# Altium footprint library Tese_FootprintLib.PcbLib: 41 footprints (part 2 of 3)
Each footprint in its own frame and in the unit in brackets; x right, y up, seen from the top. Pads: shape width x height; smd on the part's side, far side on the other; paste and mask are expansions set on the pad; w line width, h text height; cw(c..) or ccw(c..) is an arc to the next point about the centre after c.
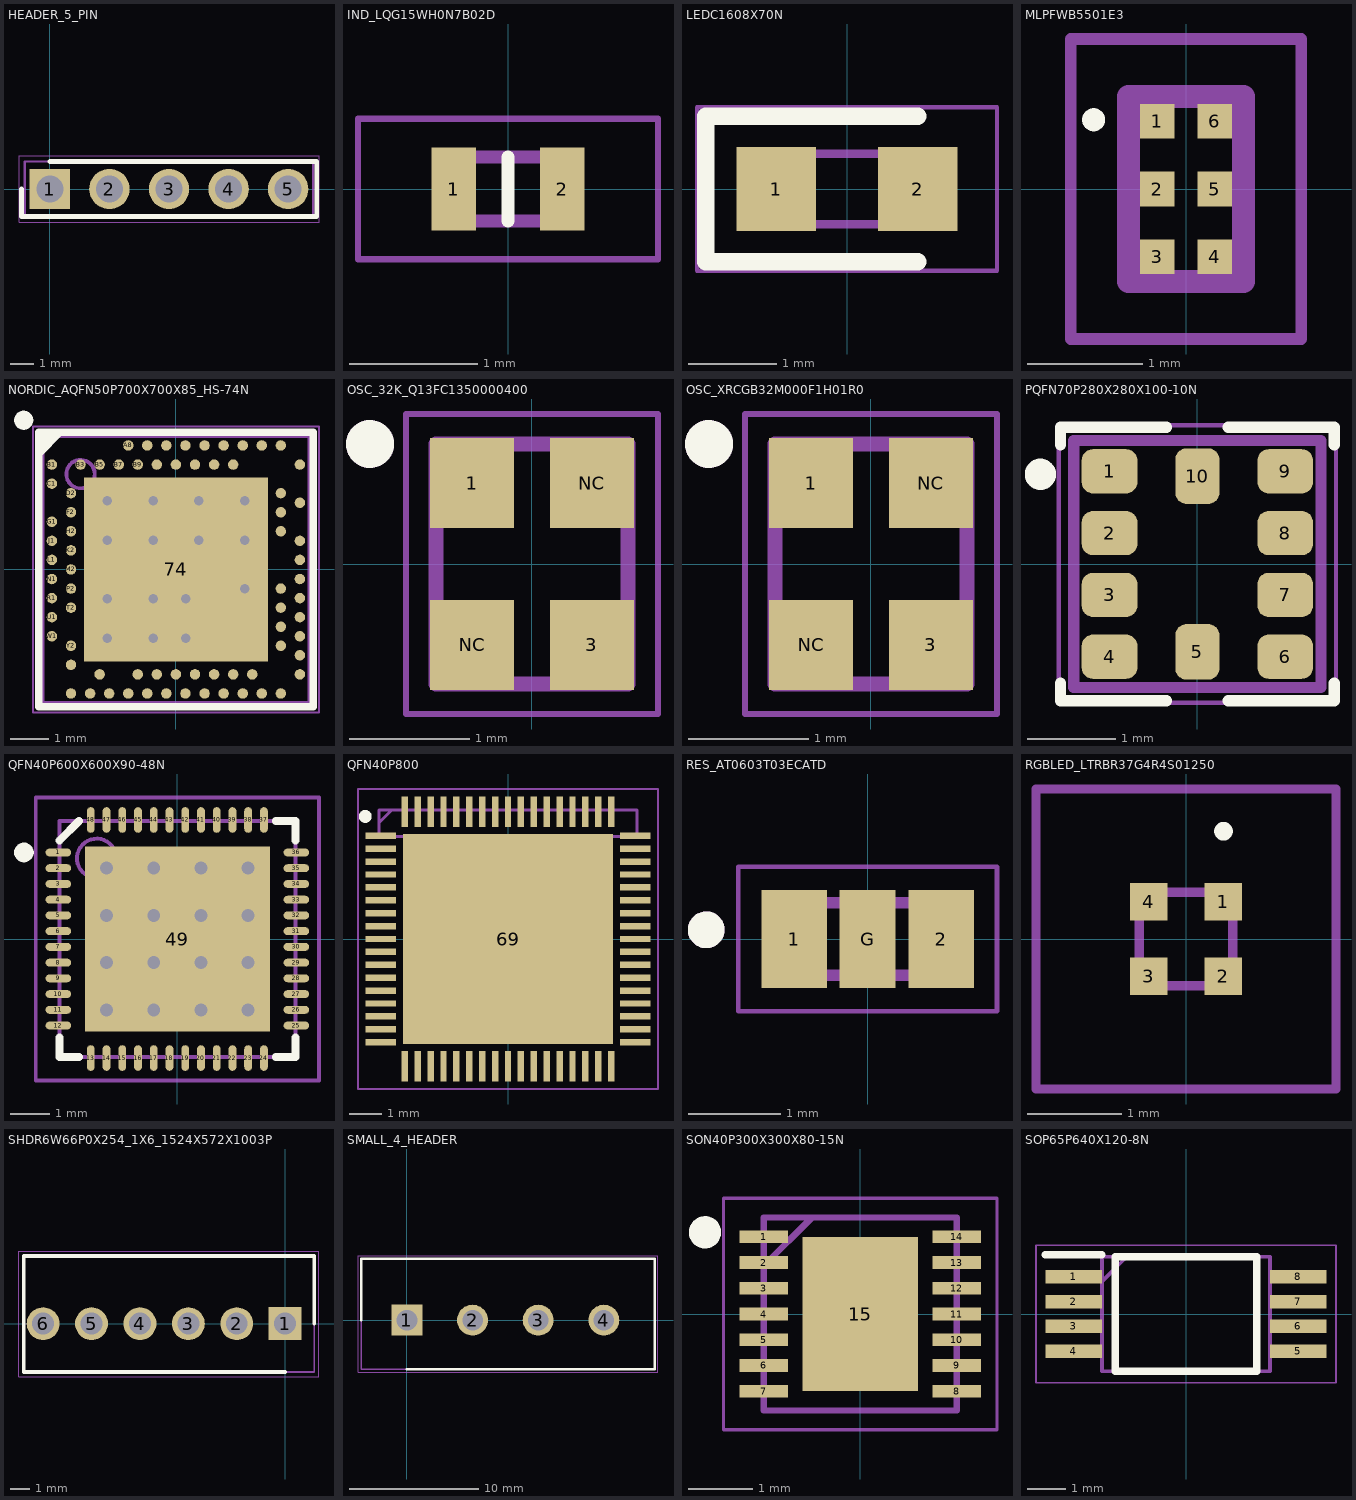
[diagram p1: the footprints below, top view; thin cyan lines are the x and y axes]

## HEADER_5_PIN [mm]
pads (5):
  rect 1.725x1.725 / inner round 1.725 / far side rect 1.725x1.725 hole 1.15: 1(0,0)
  round 1.725 hole 1.15: 2(2.54,0) 3(5.08,0) 4(7.62,0) 5(10.16,0)
Top Overlay:
  lines w0.2: -1.212,0 -1.212,-1.17 11.373,-1.17 11.373,1.17 0,1.17
Mechanical 15:
  lines w0.1: -1.065,-1.17 -1.065,1.17 11.225,1.17 11.225,-1.17 -1.065,-1.17
Mechanical 20:
  lines w0.05: -1.315,-1.42 -1.315,1.42 11.475,1.42 11.475,-1.42 -1.315,-1.42

## IND_LQG15WH0N7B02D [mm] "INDUCTOR 0402"
pads (2):
  rect 0.35x0.65 smd: 1(-0.425,0) 2(0.425,0)
Top Overlay:
  lines w0.1: 0,-0.25 0,0.25
Mechanical 15:
  lines w0.1: -0.5,-0.25 0.5,-0.25 0.5,0.25 -0.5,0.25 -0.5,-0.25
Mechanical 20:
  lines w0.05: -1.175,-0.55 1.175,-0.55 1.175,0.55 -1.175,0.55 -1.175,-0.55
3D body "LQG15HN9N1J02D.stp": height 0.55, standoff 0, extent -0.5,-0.25 0.5,0.25

## LEDC1608X70N [mm]
pads (2):
  rect 0.9x0.95 smd: 1(-0.8,0) 2(0.8,0)
Top Overlay:
  lines w0.2: 0.8,-0.825 -1.6,-0.825 -1.6,0.825 0.8,0.825
Mechanical 15:
  lines w0.1: -0.8,0.133 -0.533,0.4 ; -0.8,-0.4 0.8,-0.4 0.8,0.4 -0.8,0.4 -0.8,-0.4
Mechanical 20:
  lines w0.05: -1.7,-0.925 1.7,-0.925 1.7,0.925 -1.7,0.925 -1.7,-0.925

## MLPFWB5501E3 [mm]
pads (6):
  rect 0.3x0.3 smd mask+0.05: 1(-0.25,0.587) 2(-0.25,0) 3(-0.25,-0.587) 4(0.25,-0.587) 5(0.25,0) 6(0.25,0.587)
Top Overlay:
  lines w0.1: -0.8,0.55 ccw(c-0.8,0.6) -0.8,0.65 ccw(c-0.8,0.6) -0.8,0.55
Mechanical 15:
  lines w0.2: -0.5,-0.8 -0.5,0.8 0.5,0.8 0.5,-0.8 -0.5,-0.8
Mechanical 20:
  lines w0.1: -1,-1.3 -1,1.3 1,1.3 1,-1.3 -1,-1.3
3D body "MLPF-WB55-01E3.stp": height 0.44, standoff -0.01, extent -0.5,-0.8 0.5,0.8

## NORDIC_AQFN50P700X700X85_HS-74N [mm]
pads (74):
  rect 4.83x4.83 smd mask+0.05: 74(0,0)
  round 0.275 smd paste+0.012 mask+0.05: A8(-1.25,3.25) A10(-0.75,3.25) A12(-0.25,3.25) A14(0.25,3.25) A16(0.75,3.25) A18(1.25,3.25) A20(1.75,3.25) A22(2.25,3.25) A23(2.75,3.25) AA24(3.25,-2.25) AB2(-2.75,-2.5) AC5(-2,-2.75) AC9(-1,-2.75) AC11(-0.5,-2.75) AC13(0,-2.75) AC15(0.5,-2.75) AC17(1,-2.75) AC19(1.5,-2.75) AC21(2,-2.75) AC24(3.25,-2.75) AD2(-2.75,-3.25) AD4(-2.25,-3.25) AD6(-1.75,-3.25) AD8(-1.25,-3.25) AD10(-0.75,-3.25) AD12(-0.25,-3.25) AD14(0.25,-3.25) AD16(0.75,-3.25) AD18(1.25,-3.25) AD20(1.75,-3.25) AD22(2.25,-3.25) AD23(2.75,-3.25) B1(-3.25,2.75) B3(-2.5,2.75) B5(-2,2.75) B7(-1.5,2.75) B9(-1,2.75) B11(-0.5,2.75) B13(0,2.75) B15(0.5,2.75) B17(1,2.75) B19(1.5,2.75) B24(3.25,2.75) C1(-3.25,2.25) D2(-2.75,2) D23(2.75,2) E24(3.25,1.75) F2(-2.75,1.5) F23(2.75,1.5) G1(-3.25,1.25) H2(-2.75,1) H23(2.75,1) J1(-3.25,0.75) J24(3.25,0.75) K2(-2.75,0.5) L1(-3.25,0.25) L24(3.25,0.25) M2(-2.75,0) N1(-3.25,-0.25) N24(3.25,-0.25) P2(-2.75,-0.5) P23(2.75,-0.5) R1(-3.25,-0.75) R24(3.25,-0.75) T2(-2.75,-1) T23(2.75,-1) U1(-3.25,-1.25) U24(3.25,-1.25) V23(2.75,-1.5) W1(-3.25,-1.75) W24(3.25,-1.75) Y2(-2.75,-2) Y23(2.75,-2)
via 1.8,-0.508 diameter 0.5 hole 0.25
via 0.254,-1.8 diameter 0.5 hole 0.25
via -0.6,-1.8 diameter 0.5 hole 0.25
via -1.8,-1.8 diameter 0.5 hole 0.25
via 0.254,-0.762 diameter 0.5 hole 0.25
via -0.6,-0.762 diameter 0.5 hole 0.25
via -1.8,-0.762 diameter 0.5 hole 0.25
via 1.8,0.762 diameter 0.5 hole 0.25
via 0.6,0.762 diameter 0.5 hole 0.25
via -0.6,0.762 diameter 0.5 hole 0.25
via -1.8,0.762 diameter 0.5 hole 0.25
via 1.8,1.8 diameter 0.5 hole 0.25
via 0.6,1.8 diameter 0.5 hole 0.25
via -0.6,1.8 diameter 0.5 hole 0.25
via -1.8,1.8 diameter 0.5 hole 0.25
Top Overlay:
  circle w0.25: c-3.988,3.912 r0.125
  region: -3,3.5 -3.5,3 -3.5,3.5
  lines w0.2: -3.6,-3.6 3.6,-3.6 3.6,3.6 -3.6,3.6 -3.6,-3.6
Mechanical 7:
  circle w0.1: c-2.5,2.5 r0.373
  lines w0.1: -3.5,-3.5 -3.5,3.5 3.5,3.5 3.5,-3.5 -3.5,-3.5
  text ".Designator" at 0.305,0.076 h0.3
Mechanical 15:
  lines w0.05: -3.75,-3.75 3.75,-3.75 3.75,3.75 -3.75,3.75 -3.75,-3.75
  lines w0.1: -0.5,0 0.5,0 ; 0,-0.5 0,0.5
3D body "LGA88C25P25X25_700X700X85.step": height 0.85, standoff 0, extent -3.55,-3.55 3.55,3.55

## OSC_32K_Q13FC1350000400 [mm] "32.768kHz 12.5pF ±20ppm SMD3215-2P Crystals ROHS"
pads (4):
  rect 0.7x0.75 smd: 1(-0.5,0.675) 3(0.5,-0.675) NC(-0.5,-0.675) NC(0.5,0.675)
Top Overlay:
  circle w0.2: c-1.35,1 r0.1
Mechanical 13:
  circle w0.2: c-1.35,1 r0.1
  lines w0.127: -0.8,-1 -0.8,1 0.8,1 0.8,-1 -0.8,-1
Mechanical 15:
  lines w0.05: -1.05,-1.25 -1.05,1.25 1.05,1.25 1.05,-1.25 -1.05,-1.25
3D body "step_temp.STEP": height 0.7, standoff 0, extent -0.8,-1 0.8,1

## OSC_XRCGB32M000F1H01R0 [mm] "CRYSTAL 32MHZ"
pads (4):
  rect 0.7x0.75 smd: 1(-0.5,0.675) 3(0.5,-0.675) NC(-0.5,-0.675) NC(0.5,0.675)
Top Overlay:
  circle w0.2: c-1.35,1 r0.1
Mechanical 13:
  circle w0.2: c-1.35,1 r0.1
  lines w0.127: -0.8,-1 -0.8,1 0.8,1 0.8,-1 -0.8,-1
Mechanical 15:
  lines w0.05: -1.05,-1.25 -1.05,1.25 1.05,1.25 1.05,-1.25 -1.05,-1.25
3D body "step_temp.STEP": height 0.7, standoff 0, extent -0.8,-1 0.8,1

## PQFN70P280X280X100-10N [mm] "BH1790GLC-E2 PPG"
pads (10):
  rrect50% 0.63x0.5 smd: 1(-0.995,1.05) 2(-0.995,0.35) 3(-0.995,-0.35) 4(-0.995,-1.05) 6(0.995,-1.05) 7(0.995,-0.35) 8(0.995,0.35) 9(0.995,1.05)
  rrect50% 0.5x0.63 smd: 5(0,-0.995) 10(0,0.995)
Top Overlay:
  circle w0.254: c-1.778,1.016 r0.05
  lines w0.127: -1.55,-1.35 -1.55,-1.55 -0.35,-1.55 ; -1.55,1.35 -1.55,1.55 -0.35,1.55 ; 0.35,-1.55 1.55,-1.55 1.55,-1.35 ; 0.35,1.55 1.55,1.55 1.55,1.35
Mechanical 13:
  lines w0.127: -1.4,-1.4 -1.4,1.4 1.4,1.4 1.4,-1.4 -1.4,-1.4
Mechanical 15:
  lines w0.05: -1.57,-1.57 -1.57,1.57 1.57,1.57 1.57,-1.57 -1.57,-1.57
3D body "BH1790GLC-E2.STEP": height 1.01, standoff 0, extent -1.5,-1.627 1.5,1.373

## QFN40P600X600X90-48N [mm] "NRF52832"
pads (49):
  oval 0.65x0.2 smd: 1(-3.025,2.2) 2(-3.025,1.8) 3(-3.025,1.4) 4(-3.025,1) 5(-3.025,0.6) 6(-3.025,0.2) 7(-3.025,-0.2) 8(-3.025,-0.6) 9(-3.025,-1) 10(-3.025,-1.4) 11(-3.025,-1.8) 12(-3.025,-2.2) 25(3.025,-2.2) 26(3.025,-1.8) 27(3.025,-1.4) 28(3.025,-1) 29(3.025,-0.6) 30(3.025,-0.2) 31(3.025,0.2) 32(3.025,0.6) 33(3.025,1) 34(3.025,1.4) 35(3.025,1.8) 36(3.025,2.2)
  oval 0.2x0.65 smd: 13(-2.2,-3.025) 14(-1.8,-3.025) 15(-1.4,-3.025) 16(-1,-3.025) 17(-0.6,-3.025) 18(-0.2,-3.025) 19(0.2,-3.025) 20(0.6,-3.025) 21(1,-3.025) 22(1.4,-3.025) 23(1.8,-3.025) 24(2.2,-3.025) 37(2.2,3.025) 38(1.8,3.025) 39(1.4,3.025) 40(1,3.025) 41(0.6,3.025) 42(0.2,3.025) 43(-0.2,3.025) 44(-0.6,3.025) 45(-1,3.025) 46(-1.4,3.025) 47(-1.8,3.025) 48(-2.2,3.025)
  rect 4.7x4.7 smd: 49(0,0)
via -1.8,1.8 diameter 0.66 hole 0.33
via -0.6,1.8 diameter 0.66 hole 0.33
via 0.6,1.8 diameter 0.66 hole 0.33
via 1.8,1.8 diameter 0.66 hole 0.33
via -1.8,0.6 diameter 0.66 hole 0.33
via -0.6,0.6 diameter 0.66 hole 0.33
via 0.6,0.6 diameter 0.66 hole 0.33
via 1.8,0.6 diameter 0.66 hole 0.33
via -1.8,-0.6 diameter 0.66 hole 0.33
via -0.6,-0.6 diameter 0.66 hole 0.33
via 0.6,-0.6 diameter 0.66 hole 0.33
via 1.8,-0.6 diameter 0.66 hole 0.33
via -1.8,-1.8 diameter 0.66 hole 0.33
via -0.6,-1.8 diameter 0.66 hole 0.33
via 0.6,-1.8 diameter 0.66 hole 0.33
via 1.8,-1.8 diameter 0.66 hole 0.33
Top Overlay:
  circle w0.25: c-3.9,2.2 r0.125
  lines w0.2: -3,-2.5 -3,-3 -2.5,-3 ; -3,2.5 -2.5,3 ; 2.5,-3 3,-3 3,-2.5 ; 2.5,3 3,3 3,2.5
Mechanical 13:
  circle w0.1: c-2.05,2.05 r0.5
  lines w0.1: -3,-3 -3,3 3,3 3,-3 -3,-3
Mechanical 15:
  lines w0.1: -0.5,0 0.5,0 ; 0,-0.5 0,0.5 ; -3.6,-3.6 -3.6,3.6 3.6,3.6 3.6,-3.6 -3.6,-3.6
3D body "User Library-QFN48.step": height 0.86, standoff -0.01, extent -3.02,-3.02 3.02,3.02

## QFN40P800 [mm] "STM32WB55RGV6"
pads (69):
  rect 0.95x0.2 smd paste+0.001 mask+0.05: 1(-3.95,3.2) 2(-3.95,2.8) 3(-3.95,2.4) 4(-3.95,2) 5(-3.95,1.6) 6(-3.95,1.2) 7(-3.95,0.8) 8(-3.95,0.4) 9(-3.95,0) 10(-3.95,-0.4) 11(-3.95,-0.8) 12(-3.95,-1.2) 13(-3.95,-1.6) 14(-3.95,-2) 15(-3.95,-2.4) 16(-3.95,-2.8) 17(-3.95,-3.2) 35(3.95,-3.2) 36(3.95,-2.8) 37(3.95,-2.4) 38(3.95,-2) 39(3.95,-1.6) 40(3.95,-1.2) 41(3.95,-0.8) 42(3.95,-0.4) 43(3.95,0) 44(3.95,0.4) 45(3.95,0.8) 46(3.95,1.2) 47(3.95,1.6) 48(3.95,2) 49(3.95,2.4) 50(3.95,2.8) 51(3.95,3.2)
  rect 0.2x0.95 smd paste+0.001 mask+0.05: 18(-3.2,-3.95) 19(-2.8,-3.95) 20(-2.4,-3.95) 21(-2,-3.95) 22(-1.6,-3.95) 23(-1.2,-3.95) 24(-0.8,-3.95) 25(-0.4,-3.95) 26(0,-3.95) 27(0.4,-3.95) 28(0.8,-3.95) 29(1.2,-3.95) 30(1.6,-3.95) 31(2,-3.95) 32(2.4,-3.95) 33(2.8,-3.95) 34(3.2,-3.95) 52(3.2,3.95) 53(2.8,3.95) 54(2.4,3.95) 55(2,3.95) 56(1.6,3.95) 57(1.2,3.95) 58(0.8,3.95) 59(0.4,3.95) 60(0,3.95) 61(-0.4,3.95) 62(-0.8,3.95) 63(-1.2,3.95) 64(-1.6,3.95) 65(-2,3.95) 66(-2.4,3.95) 67(-2.8,3.95) 68(-3.2,3.95)
  rect 6.5x6.5 smd: 69(0,0)
Top Overlay:
  circle w0.2: c-4.425,3.8 r0.1
Mechanical 15:
  lines w0.1: -4,3.6 -3.6,4 ; -4,3.175 4,3.175 4,4 -4,4 -4,3.175
Mechanical 20:
  lines w0.05: -4.65,-4.65 4.65,-4.65 4.65,4.65 -4.65,4.65 -4.65,-4.65
3D body "STM32WB55RGV6.stp": height 1, standoff 0, extent -4.05,-4.05 4.05,4.05

## RES_AT0603T03ECATD [mil] "19-217/GHC-YR1S2/3T LED SMD Top View Uni-Color Brilliant Green 518nm 0603 Pkg ø7T/R 3k\""
pads (3):
  rect 28x42 smd mask+1.97: 1(-31.5,0) 2(31.5,0)
  rect 24x42 smd paste-78.74 mask+1.97: G(0,0)
Top Overlay:
  circle w7.87: c-69.12,3.94 r3.94
Top Paste:
  region: 7.5,-13.5 -7.5,-13.5 -7.5,13.5 7.5,13.5
Mechanical 13:
  circle w7.87: c-69.12,3.94 r3.94
  lines w5: -31.5,-15.5 31.5,-15.5 31.5,15.5 -31.5,15.5 -31.5,-15.5
Mechanical 15:
  lines w1.97: -55.34,-30.84 -55.34,30.84 55.34,30.84 55.34,-30.84 -55.34,-30.84

## RGBLED_LTRBR37G4R4S01250 [mm]
pads (4):
  rect 0.4x0.4 smd: 1(0.4,0.4) 2(0.4,-0.4) 3(-0.4,-0.4) 4(-0.4,0.4)
Top Overlay:
  lines w0.1: 0.4,1.1 cw(c0.4,1.15) 0.4,1.2 cw(c0.4,1.15) 0.4,1.1
Mechanical 15:
  lines w0.1: -0.5,-0.5 0.5,-0.5 0.5,0.5 -0.5,0.5 -0.5,-0.5
Mechanical 20:
  lines w0.1: -1.6,-1.6 1.6,-1.6 1.6,1.6 -1.6,1.6 -1.6,-1.6

## SHDR6W66P0X254_1X6_1524X572X1003P [mm] "SWD_640456-6"
pads (6):
  rect 1.725x1.725 / inner round 1.725 / far side rect 1.725x1.725 hole 1.15: 1(0,0)
  round 1.725 hole 1.15: 2(-2.54,0) 3(-5.08,0) 4(-7.62,0) 5(-10.16,0) 6(-12.7,0)
Top Overlay:
  lines w0.2: 0,-2.54 -13.716,-2.54 -13.716,3.556 1.524,3.556 1.524,0
Mechanical 15:
  lines w0.1: -13.716,-2.54 1.524,-2.54 1.524,3.556 -13.716,3.556 -13.716,-2.54
Mechanical 20:
  lines w0.05: -13.966,-2.79 1.774,-2.79 1.774,3.806 -13.966,3.806 -13.966,-2.79
3D body "640456-6.stp": height 7.49, standoff -6.1, extent -13.97,-2.603 1.27,3.238

## SMALL_4_HEADER [mm]
pads (4):
  rect 2.4x2.4 / inner round 2.4 / far side rect 2.4x2.4 hole 1.6: 1(0,0)
  round 2.4 hole 1.6: 2(5.08,0) 3(10.16,0) 4(15.24,0)
Top Overlay:
  lines w0.2: -3.54,0 -3.54,4.75 19.18,4.75 19.18,-3.8 0,-3.8
Mechanical 15:
  lines w0.1: -3.54,-3.8 19.18,-3.8 19.18,4.75 -3.54,4.75 -3.54,-3.8
Mechanical 20:
  lines w0.05: -3.79,-4.05 19.43,-4.05 19.43,5 -3.79,5 -3.79,-4.05
3D body "39531-1004.stp": height 11.94, standoff -3.3, extent -3.543,-3.81 18.783,4.572

## SON40P300X300X80-15N [mm] "MAX17260SETD+"
pads (15):
  rect 0.75x0.2 smd mask+0.05: 1(-1.5,1.2) 2(-1.5,0.8) 3(-1.5,0.4) 4(-1.5,0) 5(-1.5,-0.4) 6(-1.5,-0.8) 7(-1.5,-1.2) 8(1.5,-1.2) 9(1.5,-0.8) 10(1.5,-0.4) 11(1.5,0) 12(1.5,0.4) 13(1.5,0.8) 14(1.5,1.2)
  rect 1.8x2.4 smd mask+0.05: 15(0,0)
Top Overlay:
  circle w0.25: c-2.413,1.27 r0.125
Mechanical 15:
  lines w0.1: -1.5,0.75 -0.75,1.5 ; -1.5,-1.5 1.5,-1.5 1.5,1.5 -1.5,1.5 -1.5,-1.5
Mechanical 20:
  lines w0.05: -2.125,-1.8 2.125,-1.8 2.125,1.8 -2.125,1.8 -2.125,-1.8
3D body "MAX17260SETD+.stp": height 0.8, standoff 0, extent -1.55,-1.5 1.55,1.5

## SOP65P640X120-8N [mm] "AT24C512C-XHM-T"
pads (8):
  rect 1.475x0.35 smd: 1(-2.938,0.975) 2(-2.938,0.325) 3(-2.938,-0.325) 4(-2.938,-0.975) 5(2.938,-0.975) 6(2.938,-0.325) 7(2.938,0.325) 8(2.938,0.975)
Top Overlay:
  lines w0.2: -3.675,1.55 -2.2,1.55 ; -1.85,-1.5 -1.85,1.5 1.85,1.5 1.85,-1.5 -1.85,-1.5
Mechanical 15:
  lines w0.1: -2.2,0.85 -1.55,1.5 ; -2.2,-1.5 -2.2,1.5 2.2,1.5 2.2,-1.5 -2.2,-1.5
Mechanical 20:
  lines w0.05: -3.925,-1.8 -3.925,1.8 3.925,1.8 3.925,-1.8 -3.925,-1.8
3D body "AT24C512C-XHM-T.stp": height 1.2, standoff 0, extent -3.2,-1.5 3.2,1.5